# EAGLE library part 77 (library display-lcd-lxd)
4 AlphaNumerical Digit, .70" (17.78) Multiplexed Display Additional Descriptors: none
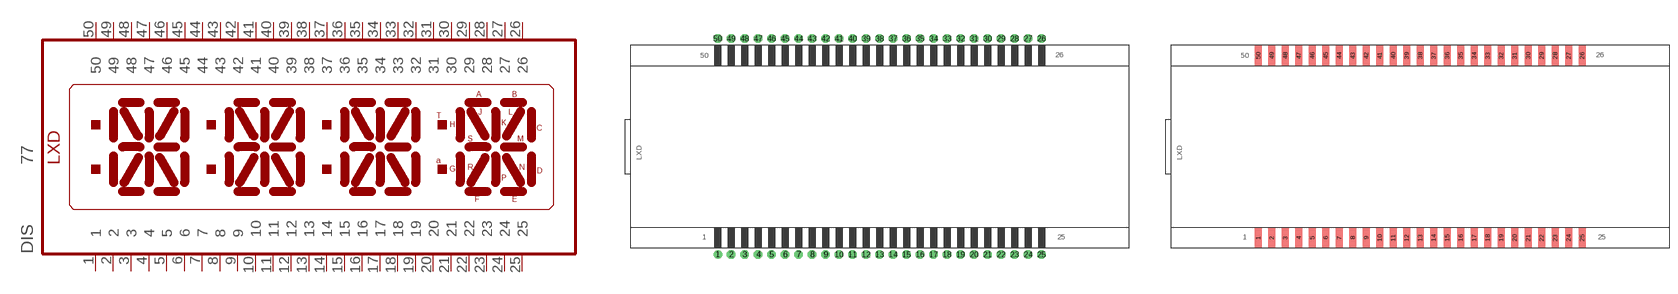
[diagram p34: symbol with the pads of 77-D; footprints 77-D, 77-E]

Designator prefix DIS

## 77DIP  [77-D]
1  1  pas
2  2  pas
3  3  pas
4  4  pas
5  5  pas
6  6  pas
7  7  pas
8  8  pas
9  9  pas
10  10  pas
11  11  pas
12  12  pas
13  13  pas
14  14  pas
15  15  pas
16  16  pas
17  17  pas
18  18  pas
19  19  pas
20  20  pas
21  21  pas
22  22  pas
23  23  pas
24  24  pas
25  25  pas
26  26  pas
27  27  pas
28  28  pas
29  29  pas
30  30  pas
31  31  pas
32  32  pas
33  33  pas
34  34  pas
35  35  pas
36  36  pas
37  37  pas
38  38  pas
39  39  pas
40  40  pas
41  41  pas
42  42  pas
43  43  pas
44  44  pas
45  45  pas
46  46  pas
47  47  pas
48  48  pas
49  49  pas
50  50  pas

## 77SMD  [77-E]
Pads as for 77-D

## Footprint 77-D (pad centres in mm)
Glass Size: 3.695" x 1.50" &nbsp &nbsp &nbsp &nbsp &nbsp &nbsp &nbsp &nbsp &nbsp (93.85 x 38.10)
drill 0.813 pad 1.6: 1 -30.48,-20.32
drill 0.813 pad 1.6 octagon: 2 -27.94,-20.32; 3 -25.4,-20.32; 4 -22.86,-20.32; 5 -20.32,-20.32; 6 -17.78,-20.32; 7 -15.24,-20.32; 8 -12.7,-20.32; 9 -10.16,-20.32; 10 -7.62,-20.32; 11 -5.08,-20.32; 12 -2.54,-20.32; 13 0,-20.32; 14 2.54,-20.32; 15 5.08,-20.32; 16 7.62,-20.32; 17 10.16,-20.32; 18 12.7,-20.32; 19 15.24,-20.32; 20 17.78,-20.32; 21 20.32,-20.32; 22 22.86,-20.32; 23 25.4,-20.32; 24 27.94,-20.32; 25 30.48,-20.32; 26 30.48,20.32; 27 27.94,20.32; 28 25.4,20.32; 29 22.86,20.32; 30 20.32,20.32; 31 17.78,20.32; 32 15.24,20.32; 33 12.7,20.32; 34 10.16,20.32; 35 7.62,20.32; 36 5.08,20.32; 37 2.54,20.32; 38 0,20.32; 39 -2.54,20.32; 40 -5.08,20.32; 41 -7.62,20.32; 42 -10.16,20.32; 43 -12.7,20.32; 44 -15.24,20.32; 45 -17.78,20.32; 46 -20.32,20.32; 47 -22.86,20.32; 48 -25.4,20.32; 49 -27.94,20.32; 50 -30.48,20.32

## Footprint 77-E (pad centres in mm)
Glass Size: 3.695" x 1.50" &nbsp &nbsp &nbsp &nbsp &nbsp &nbsp &nbsp &nbsp &nbsp (93.85 x 38.10)
smd 1.27 x 3.81: 1 -30.48,-17.145; 2 -27.94,-17.145; 3 -25.4,-17.145; 4 -22.86,-17.145; 5 -20.32,-17.145; 6 -17.78,-17.145; 7 -15.24,-17.145; 8 -12.7,-17.145; 9 -10.16,-17.145; 10 -7.62,-17.145; 11 -5.08,-17.145; 12 -2.54,-17.145; 13 0,-17.145; 14 2.54,-17.145; 15 5.08,-17.145; 16 7.62,-17.145; 17 10.16,-17.145; 18 12.7,-17.145; 19 15.24,-17.145; 20 17.78,-17.145; 21 20.32,-17.145; 22 22.86,-17.145; 23 25.4,-17.145; 24 27.94,-17.145; 25 30.48,-17.145; 26 30.48,17.145; 27 27.94,17.145; 28 25.4,17.145; 29 22.86,17.145; 30 20.32,17.145; 31 17.78,17.145; 32 15.24,17.145; 33 12.7,17.145; 34 10.16,17.145; 35 7.62,17.145; 36 5.08,17.145; 37 2.54,17.145; 38 0,17.145; 39 -2.54,17.145; 40 -5.08,17.145; 41 -7.62,17.145; 42 -10.16,17.145; 43 -12.7,17.145; 44 -15.24,17.145; 45 -17.78,17.145; 46 -20.32,17.145; 47 -22.86,17.145; 48 -25.4,17.145; 49 -27.94,17.145; 50 -30.48,17.145